# EAGLE library part ACS711 (library ACS711)
ACS711 Current sensor www.allegromicro.com/~/Media/Files/Datasheets/ACS711-Datasheet.ashx
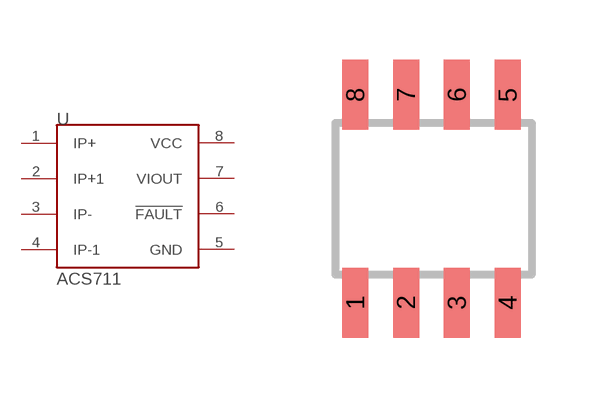
[diagram p0: symbol with the pads of SOIC8; footprint SOIC8]

Designator prefix -

## ACS711  [SOIC8]
1  IP+
2  IP+1
3  IP-
4  IP-1
5  GND
6  !FAULT
7  VIOUT
8  VCC

## Footprint SOIC8 (pad centres in mm)
Small Outline IC
smd 0.65 x 1.75: 1 -1.905,-2.6; 2 -0.635,-2.6; 3 0.635,-2.6; 4 1.905,-2.6; 5 1.905,2.6; 6 0.635,2.6; 7 -0.635,2.6; 8 -1.905,2.6